# EAGLE library part PINHD-1X40 (library AP3410)
Pinouts for OLED/LCD displays with flex ribbons
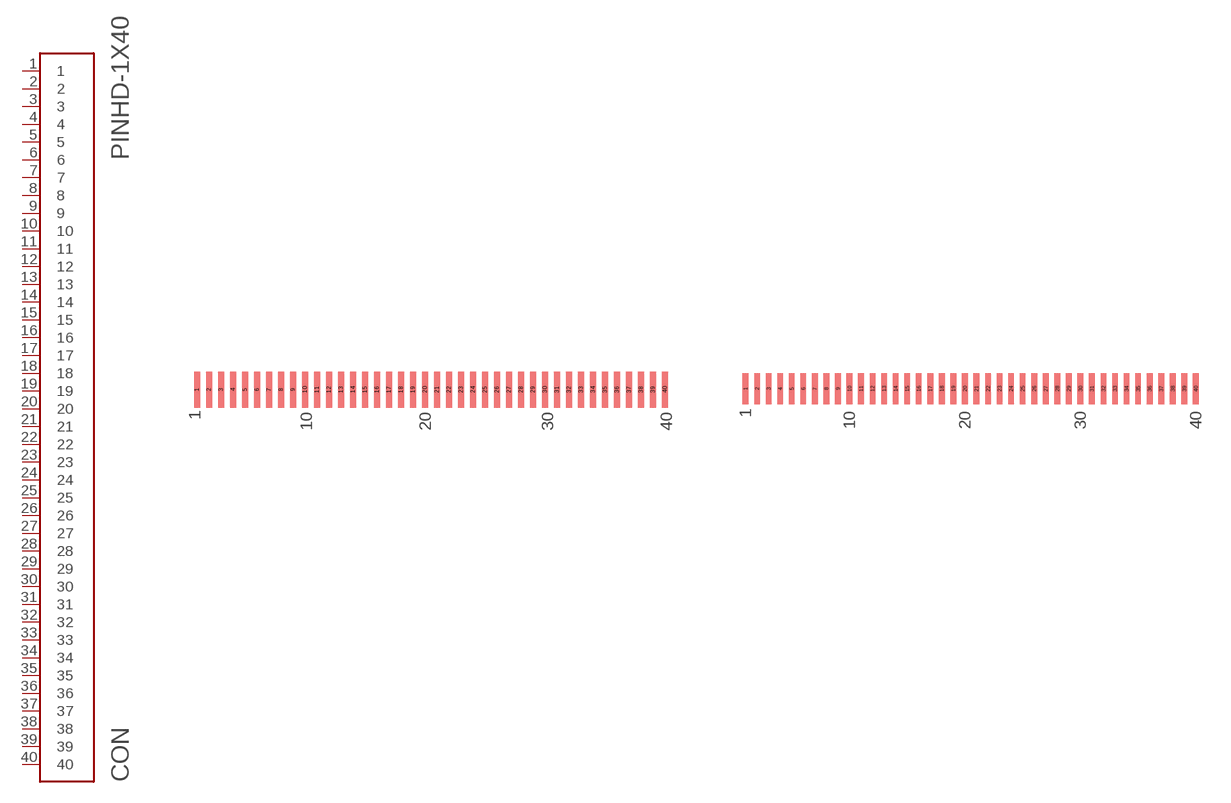
[diagram p63: symbol with the pads of 1X40-1MM; footprints 1X40-1MM, 1X40-0.6MM]

Designator prefix CON

## PINHD-1X40-1MM  [1X40-1MM]
1  1
2  2
3  3
4  4
5  5
6  6
7  7
8  8
9  9
10  10
11  11
12  12
13  13
14  14
15  15
16  16
17  17
18  18
19  19
20  20
21  21
22  22
23  23
24  24
25  25
26  26
27  27
28  28
29  29
30  30
31  31
32  32
33  33
34  34
35  35
36  36
37  37
38  38
39  39
40  40

## PINHD-1X40-0.6MM  [1X40-0.6MM]
Pads as for 1X40-1MM

## PINHD-1X40-0.7MM  [1X40-0.7MM]
Pads as for 1X40-1MM

## PINHD-1X40-0.8MM  [1X40-0.8MM]
Pads as for 1X40-1MM

## PINHD-1X40-0.5MM  [1X40-0.5MM]
Pads as for 1X40-1MM

## Footprint 1X40-1MM (pad centres in mm)
smd 0.5 x 3: 1 -19.5,-0.17; 2 -18.5,-0.17; 3 -17.5,-0.17; 4 -16.5,-0.17; 5 -15.5,-0.17; 6 -14.5,-0.17; 7 -13.5,-0.17; 8 -12.5,-0.17; 9 -11.5,-0.17; 10 -10.5,-0.17; 11 -9.5,-0.17; 12 -8.5,-0.17; 13 -7.5,-0.17; 14 -6.5,-0.17; 15 -5.5,-0.17; 16 -4.5,-0.17; 17 -3.5,-0.17; 18 -2.5,-0.17; 19 -1.5,-0.17; 20 -0.5,-0.17; 21 0.5,-0.17; 22 1.5,-0.17; 23 2.5,-0.17; 24 3.5,-0.17; 25 4.5,-0.17; 26 5.5,-0.17; 27 6.5,-0.17; 28 7.5,-0.17; 29 8.5,-0.17; 30 9.5,-0.17; 31 10.5,-0.17; 32 11.5,-0.17; 33 12.5,-0.17; 34 13.5,-0.17; 35 14.5,-0.17; 36 15.5,-0.17; 37 16.5,-0.17; 38 17.5,-0.17; 39 18.5,-0.17; 40 19.5,-0.17

## Footprint 1X40-0.6MM (pad centres in mm)
smd 0.3 x 1.6: 1 -11.7,0; 2 -11.1,0; 3 -10.5,0; 4 -9.9,0; 5 -9.3,0; 6 -8.7,0; 7 -8.1,0; 8 -7.5,0; 9 -6.9,0; 10 -6.3,0; 11 -5.7,0; 12 -5.1,0; 13 -4.5,0; 14 -3.9,0; 15 -3.3,0; 16 -2.7,0; 17 -2.1,0; 18 -1.5,0; 19 -0.9,0; 20 -0.3,0; 21 0.3,0; 22 0.9,0; 23 1.5,0; 24 2.1,0; 25 2.7,0; 26 3.3,0; 27 3.9,0; 28 4.5,0; 29 5.1,0; 30 5.7,0; 31 6.3,0; 32 6.9,0; 33 7.5,0; 34 8.1,0; 35 8.7,0; 36 9.3,0; 37 9.9,0; 38 10.5,0; 39 11.1,0; 40 11.7,0

## Footprint 1X40-0.7MM (pad centres in mm)
smd 0.35 x 1.6: 1 -13.65,0; 2 -12.95,0; 3 -12.25,0; 4 -11.55,0; 5 -10.85,0; 6 -10.15,0; 7 -9.45,0; 8 -8.75,0; 9 -8.05,0; 10 -7.35,0; 11 -6.65,0; 12 -5.95,0; 13 -5.25,0; 14 -4.55,0; 15 -3.85,0; 16 -3.15,0; 17 -2.45,0; 18 -1.75,0; 19 -1.05,0; 20 -0.35,0; 21 0.35,0; 22 1.05,0; 23 1.75,0; 24 2.45,0; 25 3.15,0; 26 3.85,0; 27 4.55,0; 28 5.25,0; 29 5.95,0; 30 6.65,0; 31 7.35,0; 32 8.05,0; 33 8.75,0; 34 9.45,0; 35 10.15,0; 36 10.85,0; 37 11.55,0; 38 12.25,0; 39 12.95,0; 40 13.65,0

## Footprint 1X40-0.8MM (pad centres in mm)
smd 0.4 x 2: 1 -15.6,0; 2 -14.8,0; 3 -14,0; 4 -13.2,0; 5 -12.4,0; 6 -11.6,0; 7 -10.8,0; 8 -10,0; 9 -9.2,0; 10 -8.4,0; 11 -7.6,0; 12 -6.8,0; 13 -6,0; 14 -5.2,0; 15 -4.4,0; 16 -3.6,0; 17 -2.8,0; 18 -2,0; 19 -1.2,0; 20 -0.4,0; 21 0.4,0; 22 1.2,0; 23 2,0; 24 2.8,0; 25 3.6,0; 26 4.4,0; 27 5.2,0; 28 6,0; 29 6.8,0; 30 7.6,0; 31 8.4,0; 32 9.2,0; 33 10,0; 34 10.8,0; 35 11.6,0; 36 12.4,0; 37 13.2,0; 38 14,0; 39 14.8,0; 40 15.6,0

## Footprint 1X40-0.5MM (pad centres in mm)
smd 0.25 x 2: 1 -9.75,0; 2 -9.25,0; 3 -8.75,0; 4 -8.25,0; 5 -7.75,0; 6 -7.25,0; 7 -6.75,0; 8 -6.25,0; 9 -5.75,0; 10 -5.25,0; 11 -4.75,0; 12 -4.25,0; 13 -3.75,0; 14 -3.25,0; 15 -2.75,0; 16 -2.25,0; 17 -1.75,0; 18 -1.25,0; 19 -0.75,0; 20 -0.25,0; 21 0.25,0; 22 0.75,0; 23 1.25,0; 24 1.75,0; 25 2.25,0; 26 2.75,0; 27 3.25,0; 28 3.75,0; 29 4.25,0; 30 4.75,0; 31 5.25,0; 32 5.75,0; 33 6.25,0; 34 6.75,0; 35 7.25,0; 36 7.75,0; 37 8.25,0; 38 8.75,0; 39 9.25,0; 40 9.75,0